# EAGLE library part MB85RS64TPN (library ICs)
FRAM (Ferroelectric RAM) Memory IC 64Kb (8K x 8) SPI 10MHz
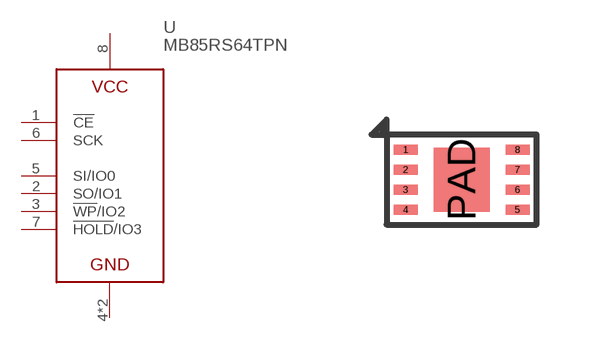
[diagram p280: symbol with the pads of SON8; footprint SON8]

Designator prefix U

## MB85RS64TPN (DIGIKEY: 865-1289-1-ND; HEIGHT: 1; PRICE_PER: 1.32; VALUE: MB85RS64TPN)  [SON8]
1  !CE
2  SO/IO1
3  !WP!/IO2
4  GND
5  SI/IO0
6  SCK
7  !HOLD!/IO3
8  VCC
PAD  GND

## Footprint SON8 (pad centres in mm)
smd 0.6 x 0.25: 1 -1.4,0.75; 2 -1.4,0.25; 3 -1.4,-0.25; 4 -1.4,-0.75; 5 1.4,-0.75; 6 1.4,-0.25; 7 1.4,0.25; 8 1.4,0.75
smd 1.4 x 1.6: PAD 0,0